# Altium footprint library OSI_manufacturer_marks.PcbLib: 1 footprints
Each footprint in its own frame and in the unit in brackets; x right, y up, seen from the top. Pads: shape width x height; smd on the part's side, far side on the other; paste and mask are expansions set on the pad; w line width, h text height; cw(c..) or ccw(c..) is an arc to the next point about the centre after c.
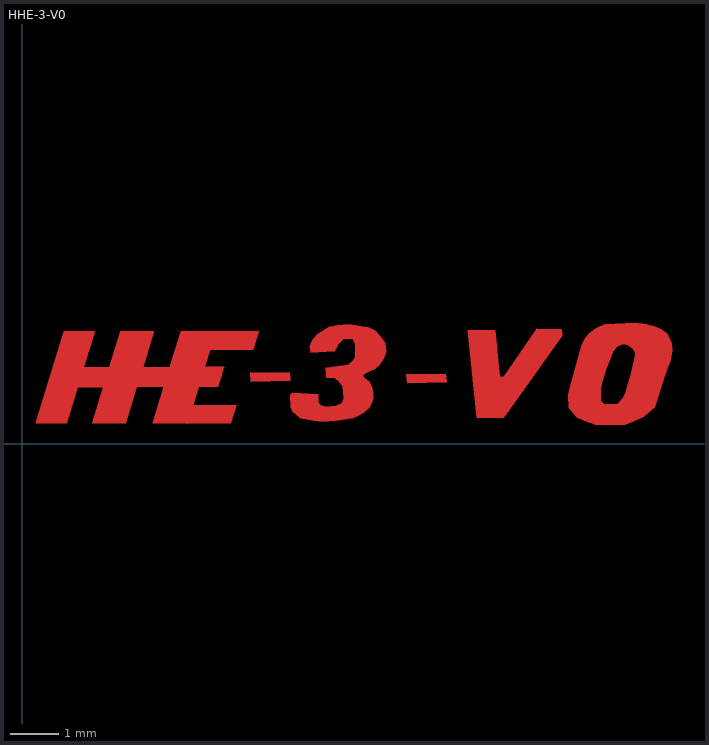
[diagram p0: the footprint, top view; thin cyan lines are the x and y axes]

## HHE-3-V0 [mm] "Manufacturing mark HHE-3-V0"
Top Layer:
  region: 4.701,1.465 5.516,1.476 5.532,1.301 4.715,1.28
  region: 7.921,1.434 8.736,1.445 8.752,1.27 7.935,1.249
  region: 6.445,1.914 5.948,1.883 5.934,2 5.985,2.136 6.086,2.265 6.246,2.361 6.332,2.413 6.509,2.448 6.732,2.47 6.882,2.452 7.138,2.406 7.267,2.344 7.397,2.209 7.483,2.087 7.503,1.904 7.454,1.759 7.358,1.625 7.27,1.536 7.142,1.484 7.034,1.431 7.034,1.404 7.041,1.376 7.152,1.281 7.219,1.17 7.242,0.955 7.209,0.84 7.161,0.762 7.053,0.654 6.927,0.578 6.82,0.533 6.478,0.475 6.172,0.453 6.009,0.475 5.733,0.533 5.564,0.672 5.538,0.76 5.523,1.015 5.565,1.057 6.103,1.03 6.103,0.857 6.159,0.794 6.255,0.77 6.471,0.792 6.587,0.836 6.626,0.927 6.609,1.181 6.513,1.304 6.437,1.36 6.335,1.363 6.265,1.37 6.262,1.569 6.568,1.608 6.726,1.638 6.799,1.699 6.857,1.764 6.869,1.832 6.869,2.064 6.82,2.163 6.635,2.171 6.525,2.061 6.476,1.968
  region: 11.289,1.152 11.532,2.047 11.597,2.173 11.684,2.275 11.781,2.352 11.885,2.415 12.015,2.465 12.635,2.498 12.862,2.473 13.025,2.428 13.169,2.363 13.286,2.281 13.389,2.087 13.399,1.926 13.368,1.74 13.265,1.467 13.039,0.752 12.809,0.559 12.591,0.458 12.434,0.4 11.847,0.387 11.586,0.475 11.434,0.554 11.269,0.744 11.254,1.028 11.289,1.152 11.927,1.142 11.927,0.888 11.996,0.822 12.269,0.819 12.384,0.943 12.438,1.062 12.476,1.189 12.535,1.381 12.631,1.78 12.635,1.884 12.587,1.966 12.509,2.027 12.428,2.054 12.347,2.049 12.253,2.004 12.175,1.885 12.102,1.703 12.038,1.554 11.962,1.287 11.927,1.142
  region: 9.186,2.343 9.371,0.538 9.931,0.538 11.133,2.231 11.123,2.362 10.607,2.377 9.926,1.389 9.848,1.389 9.751,2.348
  region: 209 vertices and 0 holes, not listed, extent 0.284,0.418 4.877,2.329